# Altium footprint library VFD-Clock.PCBLIB: 19 footprints (part 1 of 2)
Each footprint in its own frame and in the unit in brackets; x right, y up, seen from the top. Pads: shape width x height; smd on the part's side, far side on the other; paste and mask are expansions set on the pad; w line width, h text height; cw(c..) or ccw(c..) is an arc to the next point about the centre after c.
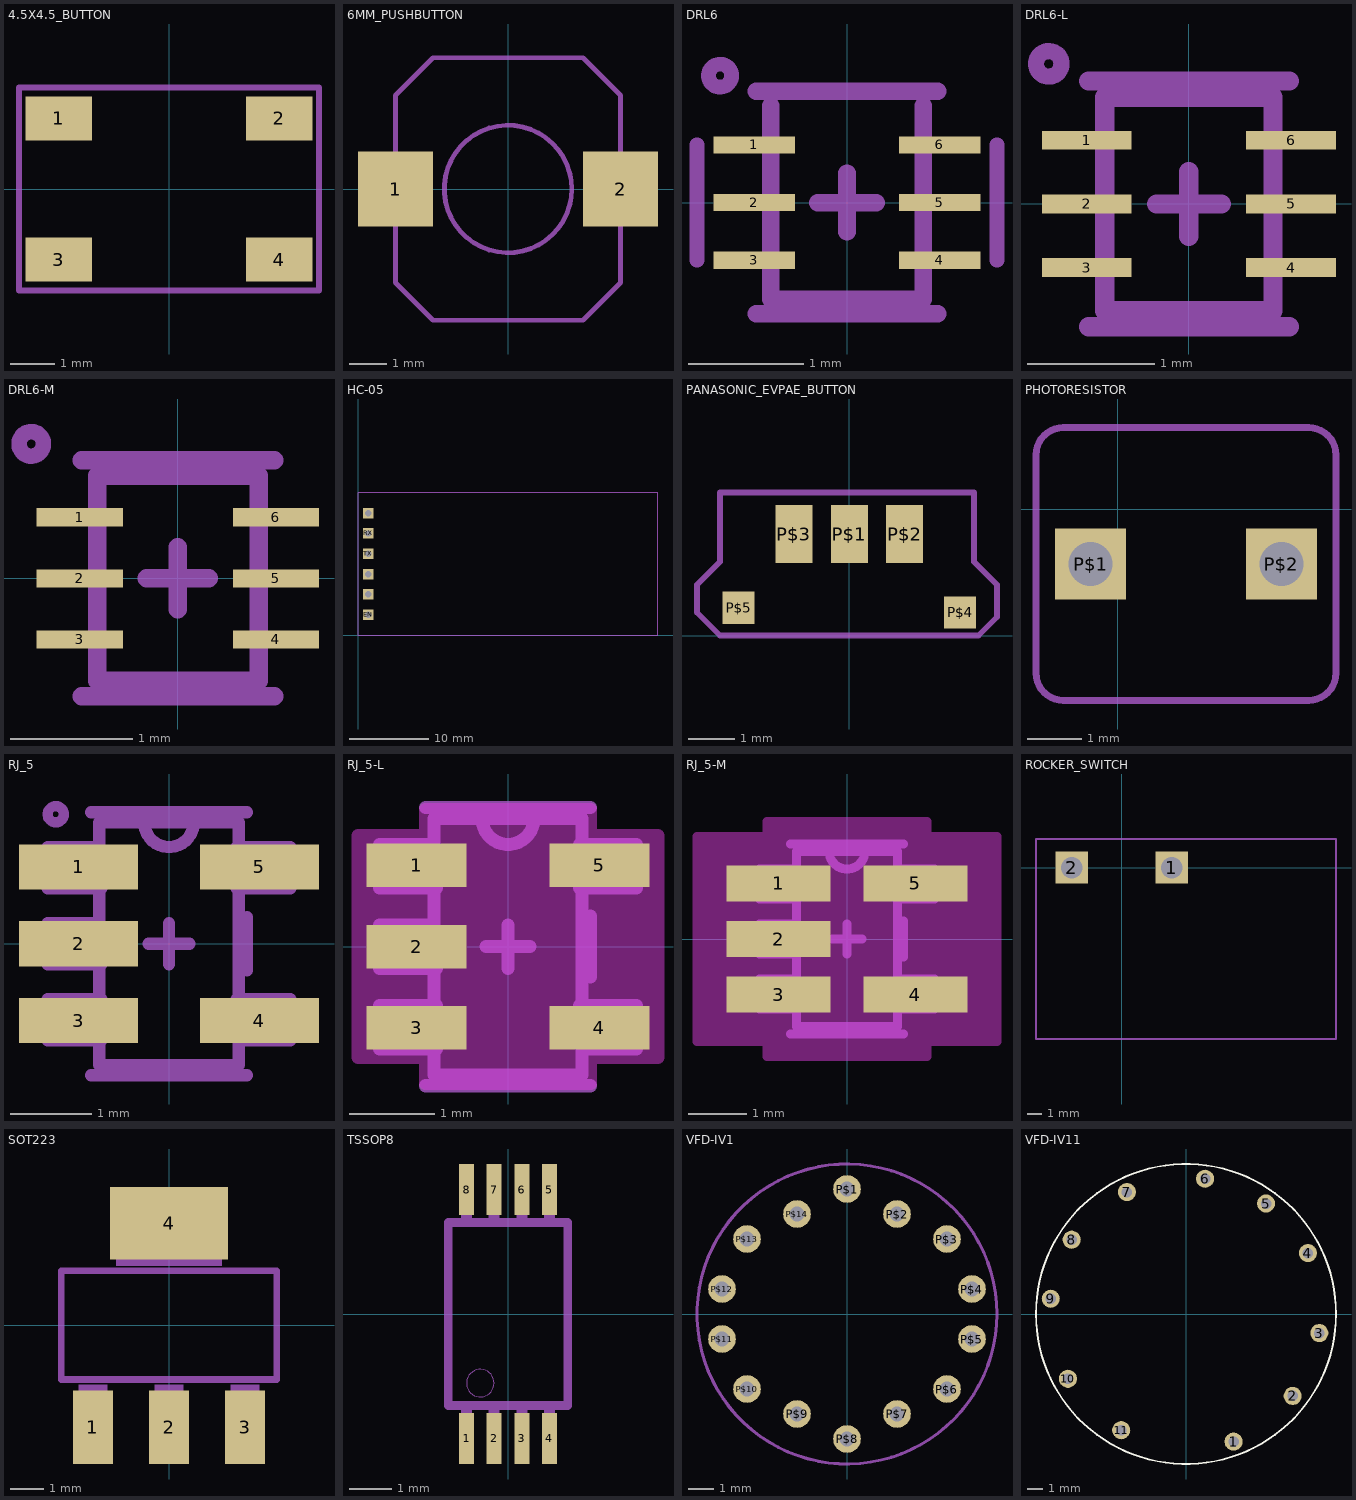
[diagram p0: the footprints below, top view; thin cyan lines are the x and y axes]

## 4.5X4.5_BUTTON [mm]
pads (4):
  rect 1.5x1 smd: 1(-2.5,1.6) 2(2.5,1.6) 3(-2.5,-1.6) 4(2.5,-1.6)
Top Assembly:
  lines w0.127: -3.4,-2.3 -3.4,2.3 3.4,2.3 3.4,-2.3 -3.4,-2.3

## 6MM_PUSHBUTTON [mm]
pads (2):
  rect 2x2 smd: 1(-3,0) 2(3,0)
Document:
  circle w0.127: c0,0 r1.7
  lines w0.127: -3,-1 -3,-2.5 -2,-3.5 2,-3.5 3,-2.5 3,-1 ; -3,1 -3,2.5 -2,3.5 2,3.5 3,2.5 3,1

## DRL6 [mm]
pads (6):
  rect 0.705x0.148 smd: 1(-0.802,0.5) 2(-0.802,0) 3(-0.802,-0.5) 4(0.802,-0.5) 5(0.802,0) 6(0.802,0.5)
Assembly Top:
  lines w0.152: -0.66,0.838 -0.66,-0.838 0.66,-0.838 0.66,0.838
Top Assembly:
  circle w0.127: c-1.1,1.1 r0.1
  lines w0.127: -1.3,-0.5 -1.3,0.5 ; 1.3,-0.5 1.3,0.5
  lines w0.152: -0.787,-0.965 0.787,-0.965 ; -0.787,0.965 0.787,0.965
Courtyard Top:
  lines w0.152: -0.254,0 0.254,0 ; 0,-0.254 0,0.254

## DRL6-L [mm]
pads (6):
  rect 0.705x0.148 smd: 1(-0.802,0.5) 2(-0.802,0) 3(-0.802,-0.5) 4(0.802,-0.5) 5(0.802,0) 6(0.802,0.5)
Assembly Top:
  lines w0.152: -0.66,-0.838 0.66,-0.838 0.66,0.838 -0.66,0.838 -0.66,-0.838
Top Assembly:
  circle w0.127: c-1.1,1.1 r0.1
  lines w0.152: -0.787,-0.965 0.787,-0.965 ; -0.787,0.965 0.787,0.965
Courtyard Top:
  lines w0.152: -0.254,0 0.254,0 ; 0,-0.254 0,0.254

## DRL6-M [mm]
pads (6):
  rect 0.705x0.148 smd: 1(-0.802,0.5) 2(-0.802,0) 3(-0.802,-0.5) 4(0.802,-0.5) 5(0.802,0) 6(0.802,0.5)
Assembly Top:
  lines w0.152: -0.66,-0.838 0.66,-0.838 0.66,0.838 -0.66,0.838 -0.66,-0.838
Top Assembly:
  circle w0.127: c-1.2,1.1 r0.1
  lines w0.152: -0.787,-0.965 0.787,-0.965 ; -0.787,0.965 0.787,0.965
Courtyard Top:
  lines w0.152: -0.254,0 0.254,0 ; 0,-0.254 0,0.254

## HC-05 [mil]
pads (6):
  rect 51.5x51.5 / inner rect 60x60 / far side rect 51.5x51.5 hole 31.5: EN(50,100) GND(50,300) RX(50,500) STATE(50,600) TX(50,400) VCC(50,200)
Top Assembly:
  lines w5: 0,0 0,699.61 1476.38,699.61 1476.38,39.37 1476.38,0 0,0

## PANASONIC_EVPAE_BUTTON [mil]
pads (5):
  rect 31.5x49.21 smd: P$1(0,86.61) P$2(47.24,86.61) P$3(-47.24,86.61)
  rect 27.56x27.56 smd: P$4(94.49,19.69) P$5(-94.49,23.62)
Top Assembly:
  lines w5: -129.92,19.69 -110.24,0 110.24,0 125.98,15.75 125.98,43.31 106.3,62.99 106.3,122.05 -110.24,122.05 -110.24,62.99 -129.92,43.31 -129.92,19.69

## PHOTORESISTOR [mil]
pads (2):
  rect 51.5x51.5 / inner rect 60x60 / far side rect 51.5x51.5 hole 31.5: P$1(-19.69,-39.37) P$2(118.11,-39.37)
Top Assembly:
  lines w5: -59.06,-118.11 ccw(c-39.37,-118.11) -39.37,-137.8 137.8,-137.8 ccw(c137.79,-118.11) 157.48,-118.11 157.48,39.37 ccw(c137.79,39.38) 137.8,59.06 -39.37,59.06 ccw(c-39.37,39.37) -59.06,39.37 -59.06,-118.11

## RJ_5 [mil]
pads (5):
  rect 58x22 smd: 1(-44,37.4) 2(-44,0) 3(-44,-37.4) 4(44,-37.4) 5(44,37.4)
Assembly Top:
  lines w6: -34,10 -34,47 ; -34,10 -34,-59 34,-59 34,-47 ; -34,10 -33,-10 -59,-10 -59,10 -34,10 ; -34,47 -34,59 -12,59 ; -34,47 -33,27 -59,27 -59,47 -34,47 ; -12,59 12,59 ; -12,59 ccw(c0,59) 12,59 ; 12,59 34,59 34,-47 ; 34,-47 33,-27 59,-27 59,-47 34,-47 ; -59,-47 -59,-27 -33,-27 -33,-47 -59,-47 ; 33,27 33,47 59,47 59,27 33,27
Top Assembly:
  circle w5: c-55.12,62.99 r3.94
  lines w6: -38,-64 38,-64 ; -38,64 38,64 ; 38,-13 38,13
Courtyard Top:
  lines w6: -10,0 10,0 ; 0,-10 0,10

## RJ_5-L [mil]
pads (5):
  rect 46x20 smd: 1(-42,37.4) 2(-42,0) 3(-42,-37.4) 4(42,-37.4) 5(42,37.4)
Top keep-out:
  region: -37.5,-63 -37.5,-51.4 -69,-51.4 -69,51.4 -37.5,51.4 -37.5,63 37.5,63 37.5,51.4 69,51.4 69,-51.4 37.5,-51.4 37.5,-63
  lines w6: -69,-51 -38,-51 -38,-63 38,-63 38,-51 69,-51 69,51 38,51 38,63 -38,63 -38,51 -69,51 -69,-51
Assembly Top:
  lines w6: -34,10 -34,47 ; -34,10 -34,-59 34,-59 34,-47 ; -34,10 -33,-10 -59,-10 -59,10 -34,10 ; -34,47 -34,59 -12,59 ; -34,47 -33,27 -59,27 -59,47 -34,47 ; -12,59 12,59 ; -12,59 ccw(c0,59) 12,59 ; 12,59 34,59 34,-47 ; 34,-47 33,-27 59,-27 59,-47 34,-47 ; -59,-47 -59,-27 -33,-27 -33,-47 -59,-47 ; 33,27 33,47 59,47 59,27 33,27
Top Assembly:
  lines w6: -38,-64 38,-64 ; -38,64 38,64 ; 38,-14 38,14
Courtyard Top:
  lines w6: -10,0 10,0 ; 0,-10 0,10

## RJ_5-M [mil]
pads (5):
  rect 70x24 smd: 1(-46,37.4) 2(-46,0) 3(-46,-37.4) 4(46,-37.4) 5(46,37.4)
Top keep-out:
  region: -53.5,-79 -53.5,-69.4 -101,-69.4 -101,69.4 -53.5,69.4 -53.5,79 53.5,79 53.5,69.4 101,69.4 101,-69.4 53.5,-69.4 53.5,-79
  lines w6: -101,-69 -54,-69 -54,-79 54,-79 54,-69 101,-69 101,69 54,69 54,79 -54,79 -54,69 -101,69 -101,-69
Assembly Top:
  lines w6: -34,10 -34,47 ; -34,10 -34,-59 34,-59 34,-47 ; -34,10 -33,-10 -59,-10 -59,10 -34,10 ; -34,47 -34,59 -12,59 ; -34,47 -33,27 -59,27 -59,47 -34,47 ; -12,59 12,59 ; -12,59 ccw(c0,59) 12,59 ; 12,59 34,59 34,-47 ; 34,-47 33,-27 59,-27 59,-47 34,-47 ; -59,-47 -59,-27 -33,-27 -33,-47 -59,-47 ; 33,27 33,47 59,47 59,27 33,27
Top Assembly:
  lines w6: -38,-64 38,-64 ; -38,64 38,64 ; 38,-12 38,12
Courtyard Top:
  lines w6: -10,0 10,0 ; 0,-10 0,10

## ROCKER_SWITCH [mm]
pads (2):
  rect 2.25x2.25 / inner rect 1.524x1.524 / far side rect 2.25x2.25 hole 1.5: 1(3.5,0) 2(-3.5,0)
Top Assembly:
  lines w0.127: -6,-12 15,-12 15,2 -6,2 -6,-12

## SOT223 [mil]
pads (4):
  rect 48x88 smd: 1(-91,-122) 2(0,-122) 3(91,-122)
  rect 141.73x86.61 smd: 4(0,122.01)
Assembly Top:
  region: -63,71 -63,144 63,144 63,71
  region: -17,-144 -17,-71 17,-71 17,-144
  region: -108,-144 -108,-71 -74,-71 -74,-144
  region: 74,-144 74,-71 108,-71 108,-144
  region: -63,71 -63,144 63,144 63,71
  region: -17,-144 -17,-71 17,-71 17,-144
  region: -108,-144 -108,-71 -74,-71 -74,-144
  region: 74,-144 74,-71 108,-71 108,-144
Top Assembly:
  lines w8: -129,-65 129,-65 129,65 -129,65 -129,-65

## TSSOP8 [mm]
pads (8):
  rect 0.35x1.2 smd: 1(-0.975,-2.925) 2(-0.325,-2.925) 3(0.325,-2.925) 4(0.975,-2.925) 5(0.975,2.925) 6(0.325,2.925) 7(-0.325,2.925) 8(-0.975,2.925)
Assembly Top:
  region: -1.1,-3.2 -1.1,-2.2 -0.85,-2.2 -0.85,-3.2
  region: -0.45,-3.2 -0.45,-2.2 -0.2,-2.2 -0.2,-3.2
  region: 0.2,-3.2 0.2,-2.2 0.45,-2.2 0.45,-3.2
  region: 0.85,-3.2 0.85,-2.2 1.1,-2.2 1.1,-3.2
  region: 0.85,2.2 0.85,3.2 1.1,3.2 1.1,2.2
  region: 0.2,2.2 0.2,3.2 0.45,3.2 0.45,2.2
  region: -0.45,2.2 -0.45,3.2 -0.2,3.2 -0.2,2.2
  region: -1.1,2.2 -1.1,3.2 -0.85,3.2 -0.85,2.2
Top Assembly:
  circle w0: c-0.65,-1.625 r0.325
  lines w0.203: -1.4,-2.15 -1.4,2.15 1.4,2.15 1.4,-2.15 -1.4,-2.15

## VFD-IV1 [mm]
pads (14):
  round 1.108 / inner round 1.524 / far side round 1.108 hole 0.6: P$1(0,5) P$2(2,4) P$3(4,3) P$4(5,1) P$5(5,-1) P$6(4,-3) P$7(2,-4) P$8(0,-5) P$9(-2,-4) P$10(-4,-3) P$11(-5,-1) P$12(-5,1) P$13(-4,3) P$14(-2,4)
Top Assembly:
  circle w0.127: c0,0 r6
Bottom Assembly:
  circle w0.127: c0,0 r6

## VFD-IV11 [mil]
pads (11):
  round 47.56 / inner round 60 / far side round 47.56 hole 27.56: 1(125,-335) 2(280,-215) 3(350,-50) 4(320,160) 5(210,290) 6(50,355) 7(-155,320) 8(-300,195) 9(-355,40) 10(-310,-170) 11(-170,-305)
Top Overlay:
  circle w5: c0,0 r393.7
Bottom Overlay:
  circle w5: c0,0 r393.7